# Altium schematic symbol library FUSE_4PIN.SchLib: 1 symbol
Pins are listed as number, name and electrical type; pins without a type are passive.

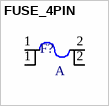
[diagram p0: symbol FUSE_4PIN]

## FUSE_4PIN
designator F?  Current Rating: A
=Description
pins: 1, 1, 2, 2